# Altium footprint library DIP Connector BtoB.PcbLib: 28 footprints (part 1 of 2)
Each footprint in its own frame and in the unit in brackets; x right, y up, seen from the top. Pads: shape width x height; smd on the part's side, far side on the other; paste and mask are expansions set on the pad; w line width, h text height; cw(c..) or ccw(c..) is an arc to the next point about the centre after c.
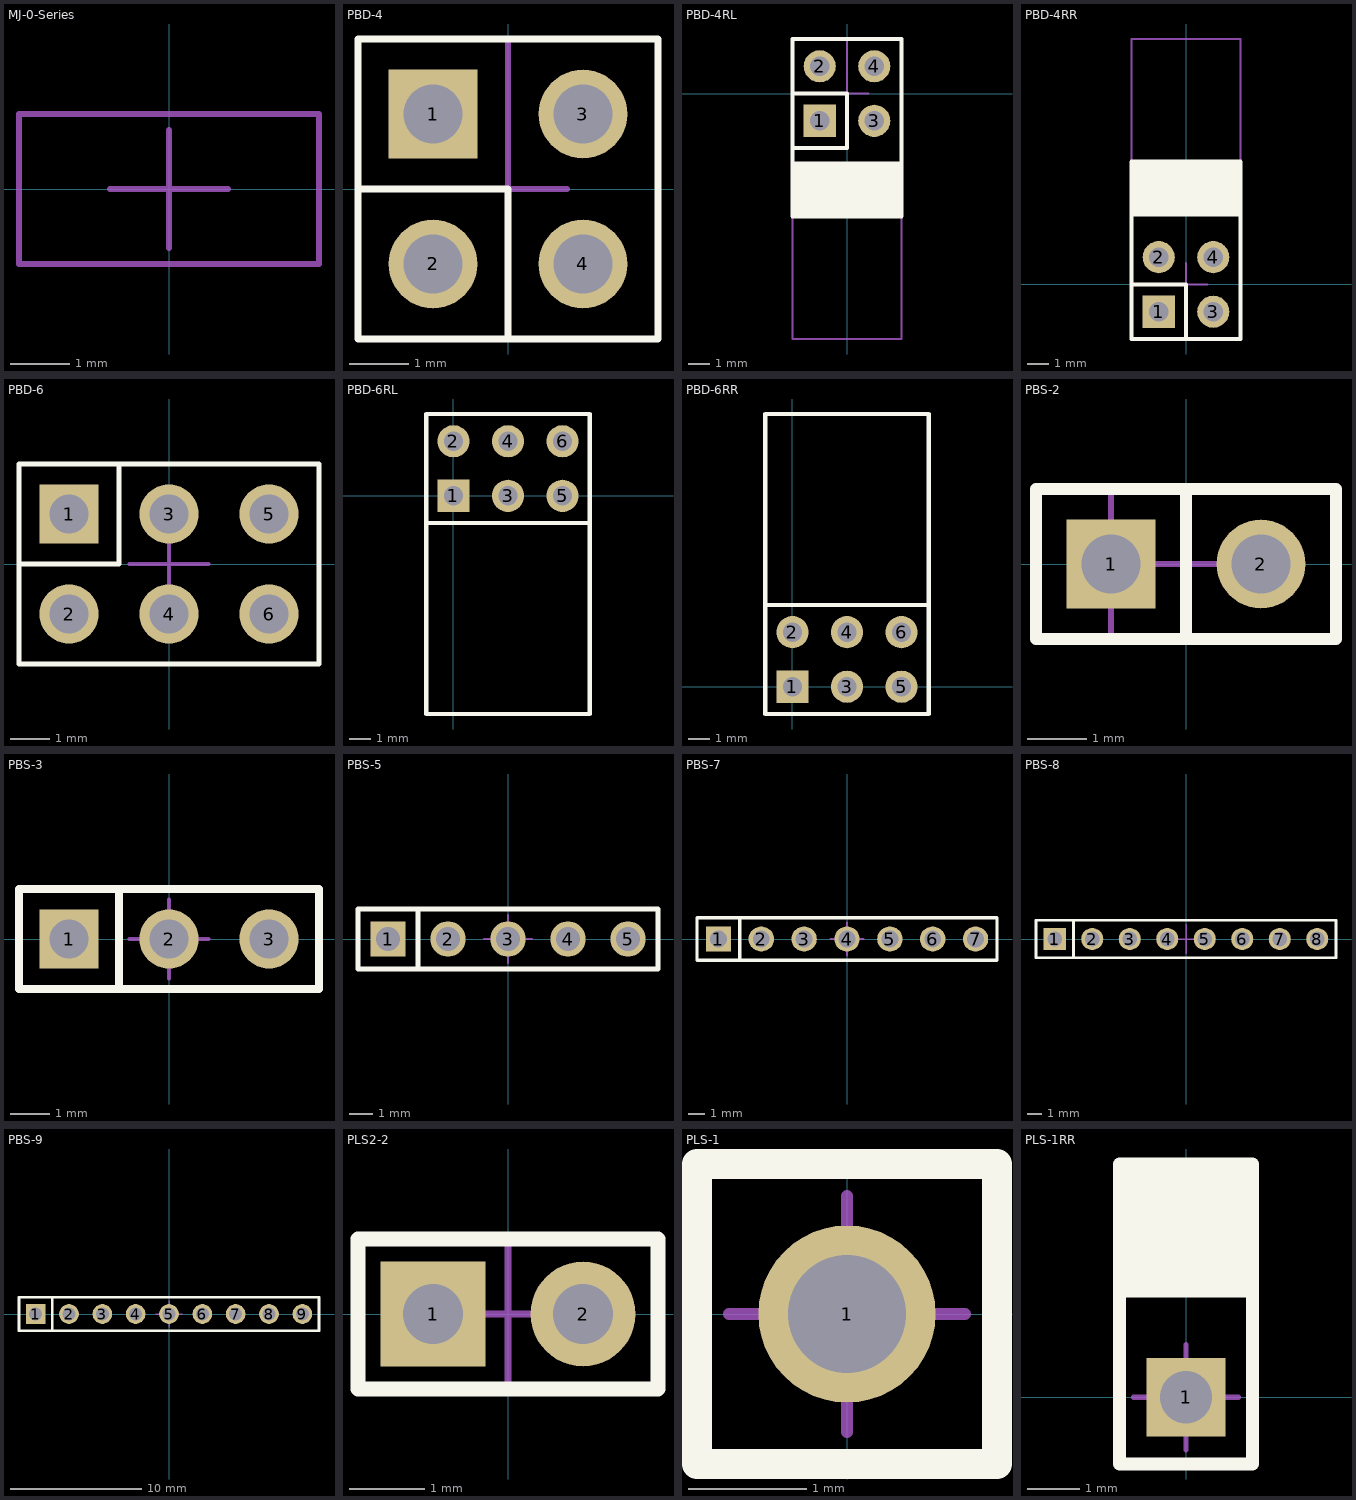
[diagram p0: the footprints below, top view; thin cyan lines are the x and y axes]

## MJ-0-Series [mm]
height 8.5
Mechanical 13:
  lines w0.1: -2.54,-1.27 -2.54,1.27 2.54,1.27 2.54,-1.27 -2.54,-1.27
Mechanical 15:
  lines w0.1: -1,0 1,0 ; 0,-1 0,1 ; -2.54,-1.27 -2.54,1.27 2.54,1.27 2.54,-1.27 -2.54,-1.27
3D body "User Library-SHORTING JUMPER.step": height 9.45, standoff 3.55, extent -2.54,-1.27 2.54,1.27

## PBD-4 [mm]
height 4
pads (4):
  rect 1.5x1.5 hole 1: 1(-1.27,1.27)
  round 1.5 hole 1: 2(-1.27,-1.27) 3(1.27,1.27) 4(1.27,-1.27)
Top Overlay:
  lines w0.125: -2.54,0 0,0 0,-2.54 ; -2.54,-2.54 -2.54,2.54 2.54,2.54 2.54,-2.54 -2.54,-2.54
Mechanical 13:
  lines w0.1: -2.54,0 0,0 0,2.54 ; -2.54,-2.54 -2.54,2.54 2.54,2.54 2.54,-2.54 -2.54,-2.54
Mechanical 15:
  lines w0.1: -1,0 1,0 ; 0,-1 0,1 ; -2.54,-2.54 2.54,-2.54 2.54,2.54 -2.54,2.54 -2.54,-2.54
3D body "PBD-2.stp": height 8.7, standoff -2.95, extent 0,-2.54 2.54,2.54
3D body "PBD-2.stp": height 8.7, standoff -2.95, extent -2.54,-2.54 0,2.54

## PBD-4RL [mm] "Connector; Header; 2x2 Position"
height 5
pads (4):
  rect 1.5x1.5 hole 0.9: 1(-1.27,-1.27)
  round 1.5 hole 0.9: 2(-1.27,1.27) 3(1.27,-1.27) 4(1.27,1.27)
Top Overlay:
  region: -2.54,-3.175 -2.54,-5.715 2.54,-5.715 2.54,-3.175
  lines w0.2: -2.54,-2.54 0,-2.54 0,0 -2.54,0 ; -2.54,-5.715 2.54,-5.715 2.54,2.54 -2.54,2.54 -2.54,-5.715
Mechanical 13:
  lines w0.1: -2.54,0 0,0 0,2.54 ; -2.54,-11.43 2.54,-11.43 2.54,2.54 -2.54,2.54 -2.54,-11.43
  text "CHECK!" at -4.4,-1.3 h1.52
Mechanical 15:
  lines w0.1: -1,0 1,0 ; 0,-1 0,1 ; -2.54,-11.43 -2.54,2.54 2.54,2.54 2.54,-11.43 -2.54,-11.43
3D body "User Library-PBD-4R.step": height 5.2, standoff -2.8, extent -2.54,-11.43 2.54,1.57

## PBD-4RR [mm] "Connector; Header; 2x2 Position"
height 5
pads (4):
  rect 1.5x1.5 hole 0.9: 1(-1.27,-1.27)
  round 1.5 hole 0.9: 2(-1.27,1.27) 3(1.27,-1.27) 4(1.27,1.27)
Top Overlay:
  region: 2.54,3.175 2.54,5.715 -2.54,5.715 -2.54,3.175
  lines w0.2: -2.54,0 0,0 0,-2.54 ; -2.54,-2.54 -2.54,5.715 2.54,5.715 2.54,-2.54 -2.54,-2.54
Mechanical 13:
  lines w0.1: -2.54,0 0,0 0,-2.54 ; -2.54,-2.54 -2.54,11.43 2.54,11.43 2.54,-2.54 -2.54,-2.54
  text "CHECK!" at -3.7,-0.6 h1.52
Mechanical 15:
  lines w0.1: -1,0 1,0 ; 0,-1 0,1 ; -2.54,-2.54 2.54,-2.54 2.54,11.43 -2.54,11.43 -2.54,-2.54
3D body "User Library-PBD-4R.step": height 5.2, standoff -2.8, extent -2.54,-1.57 2.54,11.43

## PBD-6 [mm]
height 15
pads (6):
  rect 1.5x1.5 hole 1: 1(-2.54,1.27)
  round 1.5 hole 1: 2(-2.54,-1.27) 3(0,1.27) 4(0,-1.27) 5(2.54,1.27) 6(2.54,-1.27)
Top Overlay:
  lines w0.125: -3.81,0 -1.27,0 -1.27,2.54 ; -3.81,-2.54 3.81,-2.54 3.81,2.54 -3.81,2.54 -3.81,-2.54
Mechanical 13:
  lines w0.1: -3.81,0 -1.27,0 -1.27,2.54 ; -3.81,-2.54 -3.81,2.54 3.81,2.54 3.81,-2.54 -3.81,-2.54
Mechanical 15:
  lines w0.1: -1,0 1,0 ; 0,-1 0,1 ; -3.81,-2.54 -3.81,2.54 3.81,2.54 3.81,-2.54 -3.81,-2.54
3D body "PBD-2.stp": height 8.7, standoff -2.95, extent -1.27,-2.54 1.27,2.54
3D body "PBD-2.stp": height 8.7, standoff -2.95, extent -3.81,-2.54 -1.27,2.54
3D body "PBD-2.stp": height 8.7, standoff -2.95, extent 1.27,-2.54 3.81,2.54

## PBD-6RL [mm] "Connector; Header; 3x2 Position"
height 5
pads (6):
  rect 1.5x1.5 hole 0.9: 1(0,0)
  round 1.5 hole 0.9: 2(0,2.54) 3(2.54,0) 4(2.54,2.54) 5(5.08,0) 6(5.08,2.54)
Top Overlay:
  lines w0.2: -1.27,-1.27 6.35,-1.27 ; -1.27,-1.27 -1.27,3.81 6.35,3.81 6.35,-1.27 ; -1.27,-1.27 -1.27,-10.16 6.35,-10.16 6.35,-1.27
Mechanical 13:
  text "Not Ready" at -3.175,-2.54 h1.52
3D body "PBD-6R.step": height 5, standoff -3, extent -1.27,-10.16 6.35,2.84

## PBD-6RR [mm] "Connector; Header; 3x2 Position"
height 5
pads (6):
  rect 1.5x1.5 hole 0.9: 1(0,0)
  round 1.5 hole 0.9: 2(0,2.54) 3(2.54,0) 4(2.54,2.54) 5(5.08,0) 6(5.08,2.54)
Top Overlay:
  lines w0.2: -1.27,3.81 -1.27,12.7 6.35,12.7 6.35,3.81 ; -1.27,3.81 -1.27,-1.27 6.35,-1.27 6.35,3.81 ; -1.27,3.81 6.35,3.81
Mechanical 13:
  text "Not Ready" at -4.445,2.54 h1.52
3D body "PBD-6R.step": height 5, standoff -3, extent -1.27,-0.3 6.35,12.7

## PBS-2 [mm]
height 15
pads (2):
  rect 1.5x1.5 hole 1: 1(-1.27,0)
  round 1.5 hole 1: 2(1.27,0)
Top Overlay:
  lines w0.2: 0,-1.27 0,1.27 ; -2.54,-1.27 -2.54,1.27 2.54,1.27 2.54,-1.27 -2.54,-1.27
Mechanical 13:
  lines w0.1: -1.27,-1.27 -1.27,1.27 ; -2.54,-1.27 -2.54,1.27 2.54,1.27 2.54,-1.27 -2.54,-1.27
Mechanical 15:
  lines w0.1: -1,0 1,0 ; 0,-1 0,1 ; -2.54,-1.27 2.54,-1.27 2.54,1.27 -2.54,1.27 -2.54,-1.27
3D body "PBS-1.stp": height 8.6, standoff -3.05, extent 0,-1.27 2.54,1.27
3D body "PBS-1.stp": height 8.6, standoff -3.05, extent -2.54,-1.27 0,1.27

## PBS-3 [mm]
height 15
pads (3):
  rect 1.5x1.5 hole 1: 1(-2.54,0)
  round 1.5 hole 1: 2(0,0) 3(2.54,0)
Top Overlay:
  lines w0.2: -1.27,-1.27 -1.27,1.27 ; -3.81,-1.27 3.81,-1.27 3.81,1.27 -3.81,1.27 -3.81,-1.27
Mechanical 13:
  lines w0.1: -1.27,-1.27 -1.27,1.27 ; -3.81,-1.27 -3.81,1.27 3.81,1.27 3.81,-1.27 -3.81,-1.27
Mechanical 15:
  lines w0.1: -1,0 1,0 ; 0,-1 0,1 ; -3.81,-1.27 -3.81,1.27 3.81,1.27 3.81,-1.27 -3.81,-1.27
3D body "PBS-1.stp": height 8.6, standoff -3.05, extent 1.27,-1.27 3.81,1.27
3D body "PBS-1.stp": height 8.6, standoff -3.05, extent -1.27,-1.27 1.27,1.27
3D body "PBS-1.stp": height 8.6, standoff -3.05, extent -3.81,-1.27 -1.27,1.27

## PBS-5 [mm]
height 15
pads (5):
  rect 1.5x1.5 hole 1: 1(-5.08,0)
  round 1.5 hole 1: 2(-2.54,0) 3(0,0) 4(2.54,0) 5(5.08,0)
Top Overlay:
  lines w0.2: -3.81,-1.27 -3.81,1.27 ; -6.35,-1.27 -6.35,1.27 6.35,1.27 6.35,-1.27 -6.35,-1.27
Mechanical 13:
  lines w0.1: -3.81,-1.27 -3.81,1.27 ; -6.35,-1.27 -6.35,1.27 6.35,1.27 6.35,-1.27 -6.35,-1.27
Mechanical 15:
  lines w0.1: -1,0 1,0 ; 0,-1 0,1 ; -6.35,-1.27 6.35,-1.27 6.35,1.27 -6.35,1.27 -6.35,-1.27
3D body "PBS-5.STEP": height 8.5, standoff -3.15, extent -6.35,-1.29 6.35,1.25

## PBS-7 [mm]
height 15
pads (7):
  rect 1.5x1.5 hole 1: 1(-7.62,0)
  round 1.5 hole 1: 2(-5.08,0) 3(-2.54,0) 4(0,0) 5(2.54,0) 6(5.08,0) 7(7.62,0)
Top Overlay:
  lines w0.2: -6.35,-1.27 -6.35,1.27 ; -8.89,-1.27 -8.89,1.27 8.89,1.27 8.89,-1.27 -8.89,-1.27
Mechanical 13:
  lines w0.1: -6.35,-1.27 -6.35,1.27 ; -8.89,-1.27 -8.89,1.27 8.89,1.27 8.89,-1.27 -8.89,-1.27
Mechanical 15:
  lines w0.1: -1,0 1,0 ; 0,-1 0,1 ; -8.89,-1.27 -8.89,1.27 8.89,1.27 8.89,-1.27 -8.89,-1.27
3D body "PBS-1.stp": height 8.6, standoff -3.05, extent -1.27,-1.27 1.27,1.27
3D body "PBS-1.stp": height 8.6, standoff -3.05, extent -3.81,-1.27 -1.27,1.27
3D body "PBS-1.stp": height 8.6, standoff -3.05, extent -6.35,-1.27 -3.81,1.27
3D body "PBS-1.stp": height 8.6, standoff -3.05, extent -8.89,-1.27 -6.35,1.27
3D body "PBS-1.stp": height 8.6, standoff -3.05, extent 1.27,-1.27 3.81,1.27
3D body "PBS-1.stp": height 8.6, standoff -3.05, extent 3.81,-1.27 6.35,1.27
3D body "PBS-1.stp": height 8.6, standoff -3.05, extent 6.35,-1.27 8.89,1.27

## PBS-8 [mm]
height 15
pads (8):
  rect 1.5x1.5 hole 1: 1(-8.89,0)
  round 1.5 hole 1: 2(-6.35,0) 3(-3.81,0) 4(-1.27,0) 5(1.27,0) 6(3.81,0) 7(6.35,0) 8(8.89,0)
Top Overlay:
  lines w0.2: -7.62,-1.27 -7.62,1.27 ; -10.16,-1.27 10.16,-1.27 10.16,1.27 -10.16,1.27 -10.16,-1.27
Mechanical 13:
  lines w0.1: -7.62,-1.27 -7.62,1.27 ; -10.16,-1.27 10.16,-1.27 10.16,1.27 -10.16,1.27 -10.16,-1.27
Mechanical 15:
  lines w0.1: -1,0 1,0 ; 0,-1 0,1 ; -10.16,-1.27 -10.16,1.27 10.16,1.27 10.16,-1.27 -10.16,-1.27
3D body "PBS-8.STEP": height 8.5, standoff -3.15, extent -10.16,-1.29 10.16,1.25

## PBS-9 [mm]
height 15
pads (9):
  rect 1.5x1.5 hole 1: 1(-10.16,0)
  round 1.5 hole 1: 2(-7.62,0) 3(-5.08,0) 4(-2.54,0) 5(0,0) 6(2.54,0) 7(5.08,0) 8(7.62,0) 9(10.16,0)
Top Overlay:
  lines w0.2: -8.89,-1.27 -8.89,1.27 ; -11.43,-1.27 11.43,-1.27 11.43,1.27 -11.43,1.27 -11.43,-1.27
Mechanical 13:
  lines w0.1: -8.89,-1.27 -8.89,1.27 ; -11.43,-1.27 -11.43,1.27 11.43,1.27 11.43,-1.27 -11.43,-1.27
Mechanical 15:
  lines w0.1: -1,0 1,0 ; 0,-1 0,1 ; -11.43,-1.27 11.43,-1.27 11.43,1.27 -11.43,1.27 -11.43,-1.27
3D body "PBS-5.STEP": height 8.5, standoff -3.15, extent -11.43,-1.27 1.27,1.27
3D body "PBS-5.STEP": height 8.5, standoff -3.15, extent -1.27,-1.27 11.43,1.27

## PLS2-2 [mm]
height 10
pads (2):
  rect 1.4x1.4 hole 0.8 mask+0.05: 1(-1,0)
  round 1.4 hole 0.8 mask+0.05: 2(1,0)
Top Overlay:
  lines w0.2: -2,-1 2,-1 2,1 -2,1 -2,-1
Mechanical 13:
  lines w0.1: -2,-1 2,-1 2,1 -2,1 -2,-1
Mechanical 15:
  lines w0.1: -1,0 1,0 ; 0,-1 0,1 ; -2,-1 -2,1 2,1 2,-1 -2,-1

## PLS-1 [mm]
height 10
pads (1):
  round 1.5 hole 1: 1(0,0)
Top Overlay:
  lines w0.25: -1.27,-1.27 -1.27,1.27 1.27,1.27 1.27,-1.27 -1.27,-1.27
Mechanical 13:
  lines w0.1: -1.27,-1.27 1.27,-1.27 1.27,1.27 -1.27,1.27 -1.27,-1.27
Mechanical 15:
  lines w0.1: -1,0 1,0 ; 0,-1 0,1 ; -1.27,-1.27 1.27,-1.27 1.27,1.27 -1.27,1.27 -1.27,-1.27
3D body: height 2, standoff 0, extent -1.25,-1.25 1.25,1.25
3D body: height 9, standoff -1, extent -0.3,-0.3 0.3,0.3

## PLS-1RR [mm]
height 10
pads (1):
  rect 1.5x1.5 hole 1: 1(0,0)
Top Overlay:
  region: 1.27,1.905 1.27,4.445 -1.27,4.445 -1.27,1.905
  lines w0.25: -1.27,-1.27 -1.27,4.445 1.27,4.445 1.27,-1.27 -1.27,-1.27
Mechanical 15:
  lines w0.1: -1,0 1,0 ; 0,-1 0,1 ; -1.27,-1.27 1.27,-1.27 1.27,4.445 -1.27,4.445 -1.27,-1.27
3D body "User Library-Header_Male_RA_Low_1Pin.STEP": height 3.01, standoff -2.5, extent -1.27,-0.32 1.27,9.81